# Altium footprint library Footprintovi.PcbLib: 3 footprints
Each footprint in its own frame and in the unit in brackets; x right, y up, seen from the top. Pads: shape width x height; smd on the part's side, far side on the other; paste and mask are expansions set on the pad; w line width, h text height; cw(c..) or ccw(c..) is an arc to the next point about the centre after c.
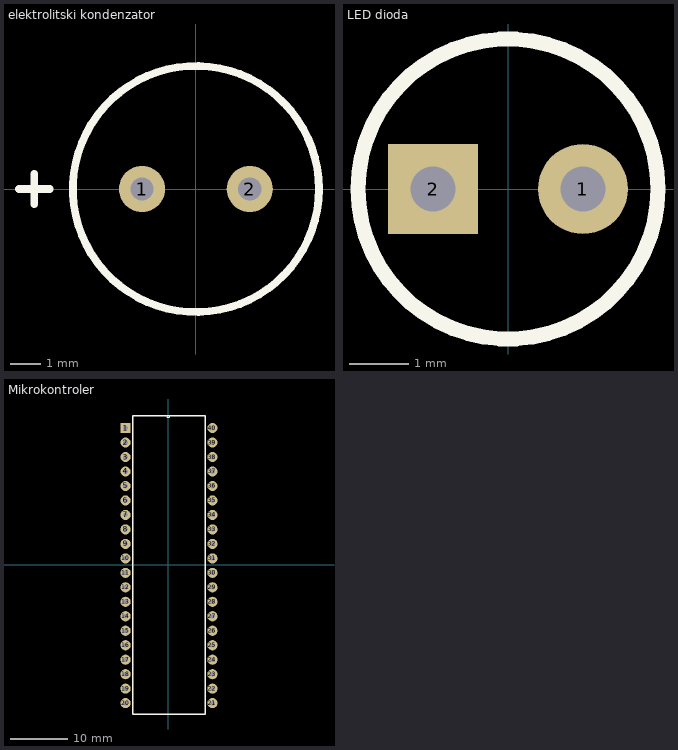
[diagram p0: the footprints below, top view; thin cyan lines are the x and y axes]

## elektrolitski kondenzator [mil]
pads (2):
  round 60 hole 30: 1(-70,0) 2(70,0)
Top Overlay:
  circle w10: c0,0 r160
  lines w10: -230,0 -190,0 ; -210,-20 -210,20

## LED dioda [mil]
pads (2):
  round 60 hole 30: 1(50,0)
  rect 60x60 hole 30: 2(-50,0)
Top Overlay:
  circle w10: c0,0 r100

## Mikrokontroler [mil]
pads (40):
  rect 70x70 hole 32: 1(-295,945)
  round 70 hole 32: 2(-295,845) 3(-295,745) 4(-295,645) 5(-295,545) 6(-295,445) 7(-295,345) 8(-295,245) 9(-295,145) 10(-295,45) 11(-295,-55) 12(-295,-155) 13(-295,-255) 14(-295,-355) 15(-295,-455) 16(-295,-555) 17(-295,-655) 18(-295,-755) 19(-295,-855) 20(-295,-955) 21(305,-955) 22(305,-855) 23(305,-755) 24(305,-655) 25(305,-555) 26(305,-455) 27(305,-355) 28(305,-255) 29(305,-155) 30(305,-55) 31(305,45) 32(305,145) 33(305,245) 34(305,345) 35(305,445) 36(305,545) 37(305,645) 38(305,745) 39(305,845) 40(305,945)
Top Overlay:
  lines w6: -12,1030 ccw(c0,1030) 12,1030
  lines w10: -245,-1030 -245,1030 255,1030 255,-1030 -245,-1030